# Altium footprint library DB.PcbLib: 24 footprints (part 2 of 2)
Each footprint in its own frame and in the unit in brackets; x right, y up, seen from the top. Pads: shape width x height; smd on the part's side, far side on the other; paste and mask are expansions set on the pad; w line width, h text height; cw(c..) or ccw(c..) is an arc to the next point about the centre after c.
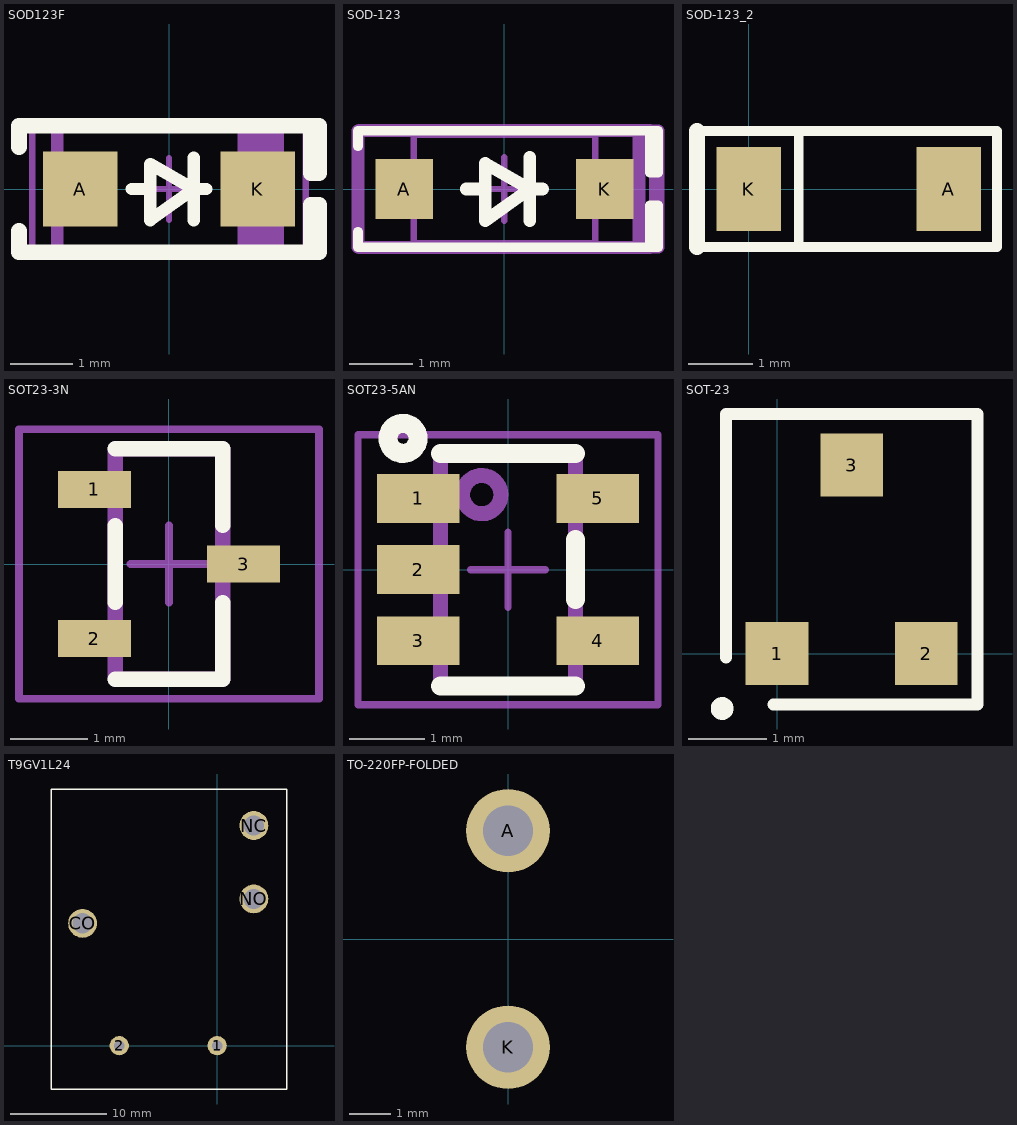
[diagram p1: the footprints below, top view; thin cyan lines are the x and y axes]

## SOD123F [mm] "SODFL, 2-Leads, Body 1.60x3.50mm, IPC Medium Density"
height 1
pads (2):
  rect 1.2x1.2 smd: A(-1.43,0) K(1.43,0)
Top Overlay:
  lines w0.2: -0.6,0 -0.3,0 ; 0.4,-0.5 0.4,0.5 ; 0.6,0 0.4,0 ; 0.4,0 -0.3,-0.5 -0.3,0.4 0.4,0
  lines w0.254: -2.413,-0.675 -2.413,-1.016 2.286,-1.016 ; -2.413,0.675 -2.413,1.016 2.286,1.016 ; 2.286,-1.016 2.286,-0.254 2.413,-0.254 2.413,-1.016 2.286,-1.016 ; 2.286,1.016 2.413,1.016 2.413,0.254 2.286,0.254 2.286,1.016
Top Assembly:
  lines w0.2: 1.2,-1 1.2,1 ; 1.35,-1 1.35,1 ; 1.5,-1 1.5,1 ; 1.6,-1 1.6,1 ; -1.8,-1.016 1.75,-1.016 1.75,1.016 -1.8,1.016 -1.8,-1.016
Top Designator:
  text ".Designator" at -0.819,-0.379 h1.4
Top Courtyard:
  lines w0.1: -0.5,0 0.5,0 ; 0,-0.5 0,0.5 ; -2.2,-1 2.2,-1 2.2,1 -2.2,1 -2.2,-1
3D body "SOD123F.STEP": height 1.1, standoff 0, extent -1.75,-0.8 1.75,0.8

## SOD-123 [mm] "SOD, 2-Leads, Body 1.55x3.70mm, IPC Medium Density"
height 1.35
pads (2):
  rect 0.9x0.95 smd: A(-1.575,0) K(1.575,0)
Top Overlay:
  lines w0.15: -2.3,-0.675 -2.3,-0.916 2.286,-0.916 ; -2.3,0.675 -2.3,0.916 2.286,0.916 ; 2.286,-0.916 2.413,-0.916 2.413,-0.254 2.286,-0.254 2.286,-0.916 ; 2.286,0.916 2.286,0.254 2.413,0.254 2.413,0.916 2.286,0.916
  lines w0.2: -0.6,0 -0.3,0 ; 0.4,-0.5 0.4,0.5 ; 0.6,0 0.4,0 ; 0.4,0 -0.3,0.4 -0.3,-0.5 0.4,0
Top Assembly:
  lines w0.2: 2.113,-0.916 2.113,0.916 ; -2.3,-0.916 -2.3,0.916 2.286,0.916 2.413,0.916 2.413,-0.916 2.286,-0.916 -2.3,-0.916
Top Designator:
  text ".Designator" at -0.719,-0.379 h1.4
Top 3D Body:
  lines w0.1: -1.425,-0.85 -1.425,0.85 1.425,0.85 1.425,-0.85 -1.425,-0.85
Top Courtyard:
  lines w0.05: -2.3,-1 -2.3,1 2.3,1 2.3,-1 -2.3,-1
  lines w0.1: -0.5,0 0.5,0 ; 0,-0.5 0,0.5
3D body "SOD-123.STEP": height 1.35, standoff 0, extent -1.864,-0.775 1.864,0.775

## SOD-123_2 [mm]
pads (2):
  rect 1x1.3 smd: A(3.1,0) K(0,0)
Top Overlay:
  lines w0.15: -0.75,-0.9 3.85,-0.9 3.85,0.9 -0.75,0.9 ; 0.775,-0.9 0.775,0.9
  lines w0.25: -0.8,-0.9 -0.8,0.9
3D body "SOD123.STEP": height 1.35, standoff 0, extent -0.275,-0.775 3.425,0.775

## SOT23-3N [mm]
height 1.1
pads (3):
  rect 0.95x0.48 smd: 1(-0.97,0.97) 2(-0.97,-0.97) 3(0.97,0)
Top Overlay:
  lines w0.2: -0.7,-1.5 0.7,-1.5 0.7,-0.5 ; -0.7,-0.5 -0.7,0.5 ; -0.7,1.5 0.7,1.5 0.7,0.5
Top Assembly:
  lines w0.2: -0.7,-1.5 0.7,-1.5 0.7,1.5 -0.7,1.5 -0.7,-1.5
Top Designator:
  text ".Designator" at -1.019,1.821 h1.4
Top 3D Body:
  lines w0.1: -0.7,-1.5 0.7,-1.5 0.7,1.5 -0.7,1.5 -0.7,-1.5
Top Courtyard:
  lines w0.1: -0.5,0 0.5,0 ; 0,-0.5 0,0.5 ; -1.95,-1.75 1.95,-1.75 1.95,1.75 -1.95,1.75 -1.95,-1.75
3D body "TO-236AB.stp": height 1.1, standoff 0, extent -1.3,-1.5 1.3,1.5

## SOT23-5AN [mm] "SOT23, 5-Leads, Body 2.9x1.6mm, Pitch 0.95mm, Lead Span 2.8mm, IPC Medium Density"
height 1.45
pads (5):
  rect 1.1x0.65 smd: 1(-1.2,0.95) 2(-1.2,0) 3(-1.2,-0.95) 4(1.2,-0.95) 5(1.2,0.95)
Top Overlay:
  circle w0.254: c-1.4,1.75 r0.2
  lines w0.254: -0.9,-1.55 0.9,-1.55 ; -0.9,1.55 0.9,1.55 ; 0.9,-0.4 0.9,0.4
Top Assembly:
  circle w0.2: c-0.35,1 r0.255
  lines w0.2: -0.9,-1.55 -0.9,1.55 0.9,1.55 0.9,-1.55 -0.9,-1.55
Top Designator:
  text ".Designator" at -7.621,-0.508 h1.4
Top Courtyard:
  lines w0.1: -0.5,0 0.5,0 ; 0,-0.5 0,0.5 ; -2,-1.8 2,-1.8 2,1.8 -2,1.8 -2,-1.8
3D body "TLV70033DDCR--3DModel-STEP-56544.STEP": height 1.1, standoff 0, extent -1.4,-1.45 1.4,1.45

## SOT-23 [mm]
pads (3):
  rect 0.8x0.8 smd: 1(0,0) 2(1.9,0) 3(0.95,2.4)
Top Overlay:
  circle w0.15: c-0.7,-0.7 r0.07
  lines w0.15: -0.65,-0.05 -0.65,3.05 2.55,3.05 2.55,-0.65 -0.05,-0.65
3D body "SOT23-3.stp": height 1.2, standoff 0.02, extent -0.55,-0.218 2.45,2.618

## T9GV1L24 [mm]
pads (5):
  round 2 hole 1.1 mask+0.05: 1(0,0) 2(-10.16,0)
  round 3 hole 2.1 mask+0.05: CO(-13.97,12.7) NC(3.81,22.86) NO(3.81,15.24)
Top Overlay:
  lines w0.15: -17.21,-4.5 7.215,-4.5 7.215,26.65 -17.21,26.65 -17.21,-4.5
3D body "c-1558671-5-b-3d.stp": height 26.8, standoff -3.15, extent -17.212,-4.493 7.217,26.635

## TO-220FP-FOLDED [mm]
pads (2):
  round 2 hole 1.2: A(0,2.59) K(0,-2.59)
3D body "TO-220-3 Bend Mirror.stp": height 1, standoff -6.41, extent -19.594,-5.942 0.25,5.942